# EAGLE library part 79109-30 (library untitled)
RECEPTACAL
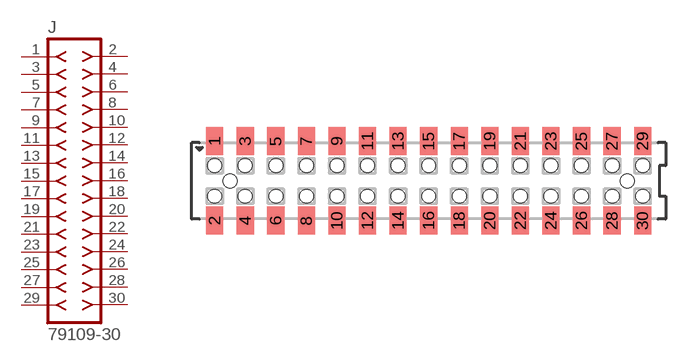
[diagram p172: symbol with the pads of 79109-30; footprint 79109-30]

Designator prefix J

## 79109-30  [79109-30]
1  1  pas
2  2  pas
3  3  pas
4  4  pas
5  5  pas
6  6  pas
7  7  pas
8  8  pas
9  9  pas
10  10  pas
11  11  pas
12  12  pas
13  13  pas
14  14  pas
15  15  pas
16  16  pas
17  17  pas
18  18  pas
19  19  pas
20  20  pas
21  21  pas
22  22  pas
23  23  pas
24  24  pas
25  25  pas
26  26  pas
27  27  pas
28  28  pas
29  29  pas
30  30  pas

## Footprint 79109-30 (pad centres in mm)
RECEPTACAL SMD Dual Row, Vertical, Pass-Thru
smd 1.12 x 1.83: 1 -14,2.6; 2 -14,-2.6; 3 -12,2.6; 4 -12,-2.6; 5 -10,2.6; 6 -10,-2.6; 7 -8,2.6; 8 -8,-2.6; 9 -6,2.6; 10 -6,-2.6; 11 -4,2.6; 12 -4,-2.6; 13 -2,2.6; 14 -2,-2.6; 15 0,2.6; 16 0,-2.6; 17 2,2.6; 18 2,-2.6; 19 4,2.6; 20 4,-2.6; 21 6,2.6; 22 6,-2.6; 23 8,2.6; 24 8,-2.6; 25 10,2.6; 26 10,-2.6; 27 12,2.6; 28 12,-2.6; 29 14,2.6; 30 14,-2.6
hole 0.914 at -13,0
hole 0.914 at -14,1
hole 0.914 at -14,-1
hole 0.914 at -12,-1
hole 0.914 at -12,1
hole 0.914 at -10,-1
hole 0.914 at -10,1
hole 0.914 at 13,0
hole 0.914 at -8,1
hole 0.914 at -8,-1
hole 0.914 at -6,1
hole 0.914 at -6,-1
hole 0.914 at -4,1
hole 0.914 at -4,-1
hole 0.914 at -2,1
hole 0.914 at -2,-1
hole 0.914 at 0,-1
hole 0.914 at 0,1
hole 0.914 at 2,1
hole 0.914 at 2,-1
hole 0.914 at 4,1
hole 0.914 at 4,-1
hole 0.914 at 6,1
hole 0.914 at 6,-1
hole 0.914 at 8,-1
hole 0.914 at 8,1
hole 0.914 at 10,1
hole 0.914 at 12,1
hole 0.914 at 14,1
hole 0.914 at 10,-1
hole 0.914 at 12,-1
hole 0.914 at 14,-1